# Altium footprint library 510K_resistor_0805_Components - 05.03.22 - 13.41.PcbLib: 4 footprints
Each footprint in its own frame and in the unit in brackets; x right, y up, seen from the top. Pads: shape width x height; smd on the part's side, far side on the other; paste and mask are expansions set on the pad; w line width, h text height; cw(c..) or ccw(c..) is an arc to the next point about the centre after c.
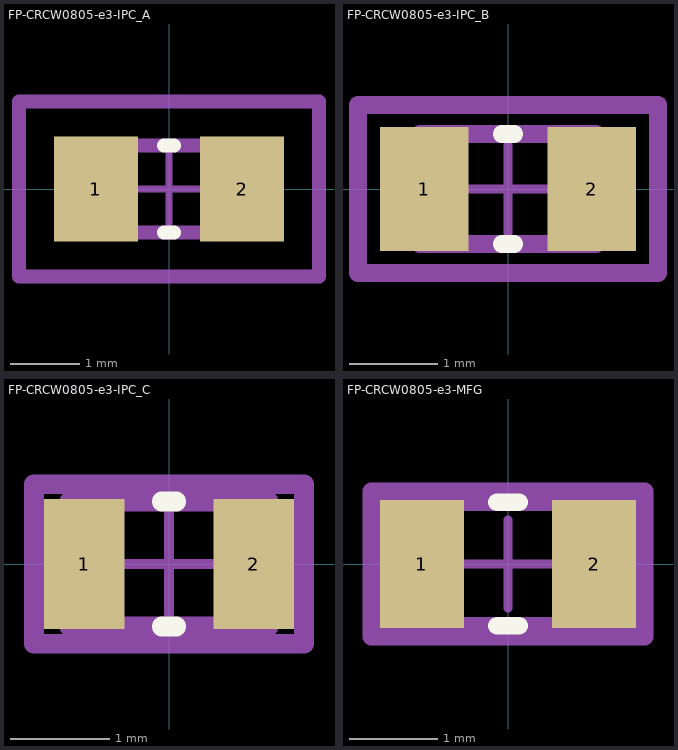
[diagram p0: the footprints below, top view; thin cyan lines are the x and y axes]

## FP-CRCW0805-e3-IPC_A [mil]
pads (2):
  rect 47.5x59.38 smd paste+0 mask+0: 1(-41.37,0) 2(41.37,0)
Top Overlay:
  lines w7.87: -2.86,-24.61 2.86,-24.61 ; -2.86,24.61 2.86,24.61
Top Assembly:
  lines w7.87: -84.81,-49.37 84.81,-49.37 84.81,49.37 -84.81,49.37 -84.81,-49.37
  text ".Designator" at 0,7.39 h39.37
Top 3D Body:
  lines w7.87: -39.37,-24.61 39.37,-24.61 39.37,24.61 -39.37,24.61 -39.37,-24.61
Top Courtyard:
  lines w7.87: -84.81,-49.37 84.81,-49.37 84.81,49.37 -84.81,49.37 -84.81,-49.37
Top Component Center:
  lines w3.94: -19.68,0 19.68,0 ; 0,-19.68 0,19.68
3D body "Res_Vishay_CRCW0805100KFKEA_eec.STEP": height 10, standoff 0, extent -84.81,-49.37 84.81,49.37

## FP-CRCW0805-e3-IPC_B [mm]
pads (2):
  rect 1.007x1.408 smd paste+0 mask+0: 1(-0.951,0) 2(0.951,0)
Top Overlay:
  lines w0.2: -0.073,-0.625 0.073,-0.625 ; -0.073,0.625 0.073,0.625
Top Assembly:
  lines w0.2: -1.704,-0.954 1.704,-0.954 1.704,0.954 -1.704,0.954 -1.704,-0.954
  text ".Designator" at 0,0.188 h1
Top 3D Body:
  lines w0.2: -1,-0.625 1,-0.625 1,0.625 -1,0.625 -1,-0.625
Top Courtyard:
  lines w0.2: -1.704,-0.954 1.704,-0.954 1.704,0.954 -1.704,0.954 -1.704,-0.954
Top Component Center:
  lines w0.1: -0.5,0 0.5,0 ; 0,-0.5 0,0.5
3D body "Res_Vishay_CRCW0805100KFKEA_eec.STEP": height 0.25, standoff 0, extent -1.704,-0.954 1.704,0.954

## FP-CRCW0805-e3-IPC_C [mil]
pads (2):
  rect 31.75x51.5 smd paste+0 mask+0: 1(-33.5,0) 2(33.5,0)
Top Overlay:
  lines w7.87: -2.86,-24.61 2.86,-24.61 ; -2.86,24.61 2.86,24.61
Top Assembly:
  lines w7.87: -53.31,-31.5 53.31,-31.5 53.31,31.5 -53.31,31.5 -53.31,-31.5
  text ".Designator" at 0,7.39 h39.37
Top 3D Body:
  lines w7.87: -39.37,-24.61 39.37,-24.61 39.37,24.61 -39.37,24.61 -39.37,-24.61
Top Courtyard:
  lines w7.87: -53.31,-31.5 53.31,-31.5 53.31,31.5 -53.31,31.5 -53.31,-31.5
Top Component Center:
  lines w3.94: -19.68,0 19.68,0 ; 0,-19.68 0,19.68
3D body "Res_Vishay_CRCW0805100KFKEA_eec.STEP": height 10, standoff 0, extent -53.31,-31.5 53.31,31.5

## FP-CRCW0805-e3-MFG [mm]
pads (2):
  rect 0.95x1.45 smd paste+0 mask+0: 1(-0.975,0) 2(0.975,0)
Top Overlay:
  lines w0.2: -0.125,-0.7 0.125,-0.7 ; -0.125,0.7 0.125,0.7
Top Assembly:
  lines w0.2: -1.55,-0.825 1.55,-0.825 1.55,0.825 -1.55,0.825 -1.55,-0.825
  text ".Designator" at 0,0.188 h1
Top 3D Body:
  lines w0.2: -1.1,-0.7 1.1,-0.7 1.1,0.7 -1.1,0.7 -1.1,-0.7
Top Courtyard:
  lines w0.2: -1.55,-0.825 1.55,-0.825 1.55,0.825 -1.55,0.825 -1.55,-0.825
Top Component Center:
  lines w0.1: -0.5,0 0.5,0 ; 0,-0.5 0,0.5
3D body "Res_Vishay_CRCW0805100KFKEA_eec.STEP": height 0.25, standoff 0, extent -1.55,-0.825 1.55,0.825